# Altium footprint library FH19SC32S05SH09.PcbLib: 1 footprints
Each footprint in its own frame and in the unit in brackets; x right, y up, seen from the top. Pads: shape width x height; smd on the part's side, far side on the other; paste and mask are expansions set on the pad; w line width, h text height; cw(c..) or ccw(c..) is an arc to the next point about the centre after c.
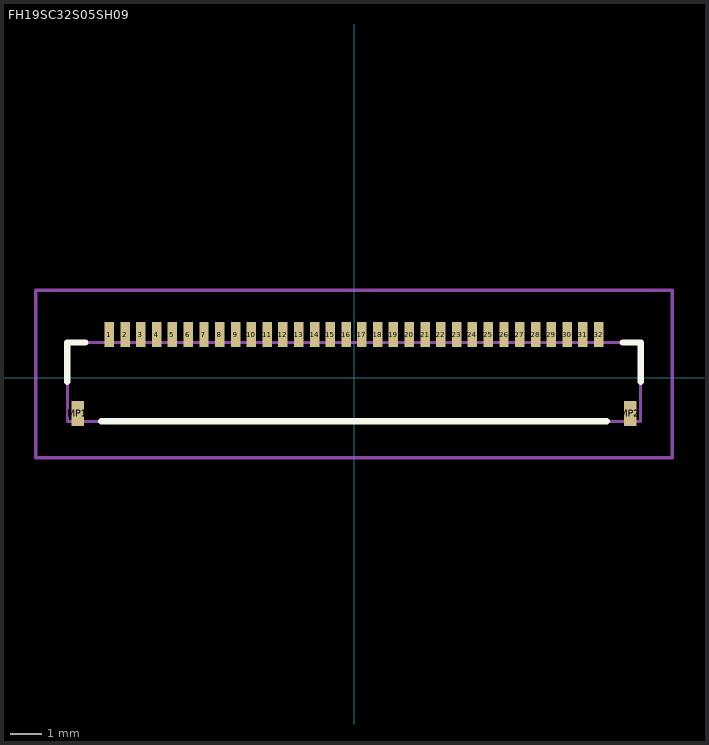
[diagram p0: the footprint, top view; thin cyan lines are the x and y axes]

## FH19SC32S05SH09 [mm]
pads (34):
  rect 0.3x0.8 smd: 1(-7.75,1.375) 2(-7.25,1.375) 3(-6.75,1.375) 4(-6.25,1.375) 5(-5.75,1.375) 6(-5.25,1.375) 7(-4.75,1.375) 8(-4.25,1.375) 9(-3.75,1.375) 10(-3.25,1.375) 11(-2.75,1.375) 12(-2.25,1.375) 13(-1.75,1.375) 14(-1.25,1.375) 15(-0.75,1.375) 16(-0.25,1.375) 17(0.25,1.375) 18(0.75,1.375) 19(1.25,1.375) 20(1.75,1.375) 21(2.25,1.375) 22(2.75,1.375) 23(3.25,1.375) 24(3.75,1.375) 25(4.25,1.375) 26(4.75,1.375) 27(5.25,1.375) 28(5.75,1.375) 29(6.25,1.375) 30(6.75,1.375) 31(7.25,1.375) 32(7.75,1.375)
  rect 0.4x0.8 smd: MP1(-8.75,-1.125) MP2(8.75,-1.125)
Top Overlay:
  lines w0.2: -9.075,-0.125 -9.075,1.125 -8.5,1.125 ; -8,-1.375 8,-1.375 ; 8.5,1.125 9.075,1.125 9.075,-0.125
Mechanical 15:
  lines w0.1: -9.075,-1.375 9.075,-1.375 9.075,1.125 -9.075,1.125 -9.075,-1.375
Mechanical 20:
  lines w0.1: -10.075,-2.525 10.075,-2.525 10.075,2.775 -10.075,2.775 -10.075,-2.525
3D body "FH19SC-32S-0.5SH--3DModel-STEP-1.STEP": height 0.93, standoff 0, extent -8.992,-1.902 9.008,1.598